# Altium schematic symbol library 网络插座.SchLib: 2 symbols
Pins are listed as number, name and electrical type; pins without a type are passive.

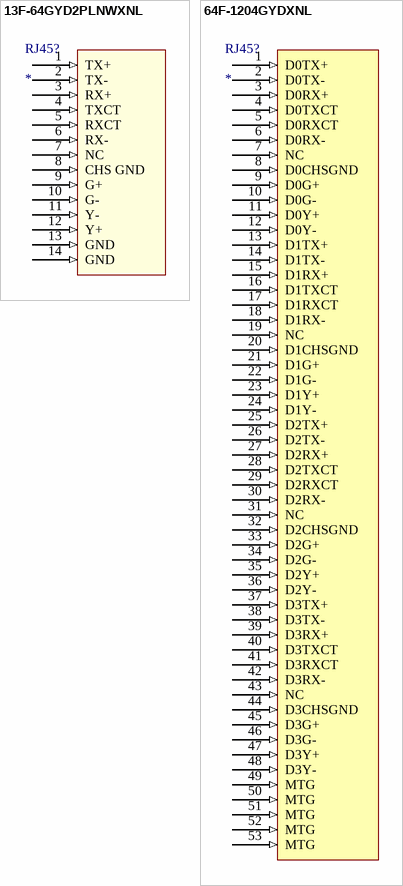
[diagram p0: symbols 13F-64GYD2PLNWXNL to 64F-1204GYDXNL]

## 13F-64GYD2PLNWXNL
designator RJ45?
RJ45 10/100M 单口带灯
footprint RJ45-1PORT-10/100 (21.5X16.26-H13.6)
pins: 1 TX+ (in), 2 TX- (in), 3 RX+ (in), 4 TXCT (in), 5 RXCT (in), 6 RX- (in), 7 NC (in), 8 CHS GND (in), 9 G+ (in), 10 G- (in), 11 Y- (in), 12 Y+ (in), 13 GND (in), 14 GND (in)

## 64F-1204GYDXNL
designator RJ45?
RJ45 10/100M 4口 带灯; 品牌: 元 册科技
footprint RJ45-4PORT-10/100 (21.5X59.12-H13.6)
pins: 1 D0TX+ (in), 2 D0TX- (in), 3 D0RX+ (in), 4 D0TXCT (in), 5 D0RXCT (in), 6 D0RX- (in), 7 NC (in), 8 D0CHSGND (in), 9 D0G+ (in), 10 D0G- (in), 11 D0Y+ (in), 12 D0Y- (in), 13 D1TX+ (in), 14 D1TX- (in), 15 D1RX+ (in), 16 D1TXCT (in), 17 D1RXCT (in), 18 D1RX- (in), 19 NC (in), 20 D1CHSGND (in), 21 D1G+ (in), 22 D1G- (in), 23 D1Y+ (in), 24 D1Y- (in), 25 D2TX+ (in), 26 D2TX- (in), 27 D2RX+ (in), 28 D2TXCT (in), 29 D2RXCT (in), 30 D2RX- (in), 31 NC (in), 32 D2CHSGND (in), 33 D2G+ (in), 34 D2G- (in), 35 D2Y+ (in), 36 D2Y- (in), 37 D3TX+ (in), 38 D3TX- (in), 39 D3RX+ (in), 40 D3TXCT (in), 41 D3RXCT (in), 42 D3RX- (in), 43 NC (in), 44 D3CHSGND (in), 45 D3G+ (in), 46 D3G- (in), 47 D3Y+ (in), 48 D3Y- (in), 49 MTG (in), 50 MTG (in), 51 MTG (in), 52 MTG (in), 53 MTG (in)